# EAGLE library part 87022-110LF (library rezzonics)
FCI 87022-610LF <http://www.digikey.com/product-detail/en/87022-610LF/87022-610LF-ND/1525688> CONN RECPT 20POS .050" SMT DUAL
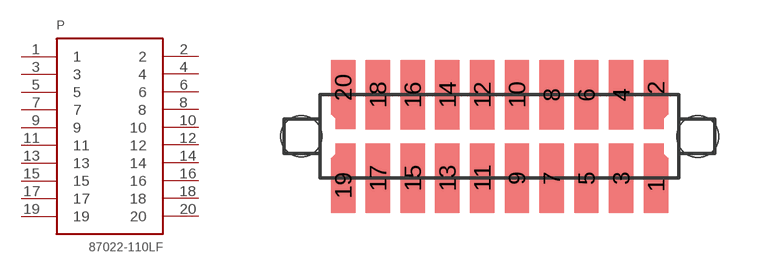
[diagram p22: symbol with the pads of 87022-110LF; footprint 87022-110LF]

Designator prefix P

## 87022-110LF  [87022-110LF]
1  1  pas
2  2  pas
3  3  pas
4  4  pas
5  5  pas
6  6  pas
7  7  pas
8  8  pas
9  9  pas
10  10  pas
11  11  pas
12  12  pas
13  13  pas
14  14  pas
15  15  pas
16  16  pas
17  17  pas
18  18  pas
19  19  pas
20  20  pas

## Footprint 87022-110LF (pad centres in mm)
smd 0.889 x 2: 1 5.715,-1.794; 2 5.715,1.794; 19 -5.715,-1.794; 20 -5.715,1.794
smd 0.889 x 2.54: 3 4.445,-1.524; 4 4.445,1.524; 5 3.175,-1.524; 6 3.175,1.524; 7 1.905,-1.524; 8 1.905,1.524; 9 0.635,-1.524; 10 0.635,1.524; 11 -0.635,-1.524; 12 -0.635,1.524; 13 -1.905,-1.524; 14 -1.905,1.524; 15 -3.175,-1.524; 16 -3.175,1.524; 17 -4.445,-1.524; 18 -4.445,1.524
hole 1.5 at -7.239,0
hole 1.524 at 7.239,0